# EAGLE library part MCP1725-3302E_MC (library sjg-pixl)
Microchip MCP1725-3302E/MC, LDO Voltage Regulator, 500mA, 3.3 V 2%, 2.3 6 Vin, 8-Pin DFN Source: Datasheet <http://www.microchip.com/mymicrochip/filehandler.aspx?ddocname=en520352>
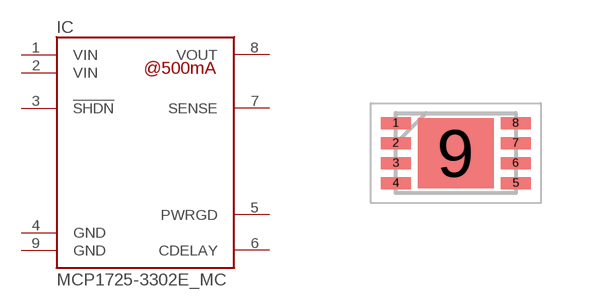
[diagram p3: symbol with the pads of SON50P300X200X100-9N; footprint SON50P300X200X100-9N]

Designator prefix IC

## MCP1725-3302E_MC (ARROW_PART_NUMBER: MCP1725-3302E/MC; ARROW_PRICE-STOCK: https://www.arrow.com/en/products/mcp1725-3302emc/microchip-technology; DESCRIPTION: Microchip MCP1725-3302E/MC, LDO Voltage Regulator, 500mA, 3.3 V 2%, 2.3 6 Vin, 8-Pin DFN; HEIGHT: 1mm; MANUFACTURER_NAME: Microchip; MANUFACTURER_PART_NUMBER: MCP1725-3302E/MC; MOUSER_PART_NUMBER: 579-MCP1725-3302E/MC; MOUSER_PRICE-STOCK: https://www.mouser.co.uk/ProductDetail/Microchip-Technology/MCP1725-3302E-MC?qs=gsqZ4L1luKrtGwR6M1mC7A%3D%3D)  [SON50P300X200X100-9N]
1  VIN
2  VIN
3  !SHDN!
4  GND
5  PWRGD
6  CDELAY
7  SENSE
8  VOUT
9  GND

## Footprint SON50P300X200X100-9N (pad centres in mm)
DFN8 (2x3 mm)
smd 0.75 x 0.3: 1 -1.5,0.75; 2 -1.5,0.25; 3 -1.5,-0.25; 4 -1.5,-0.75; 5 1.5,-0.75; 6 1.5,-0.25; 7 1.5,0.25; 8 1.5,0.75
smd 1.9 x 1.75: 9 0,0